# Altium schematic symbol library MicroFit 3.0 Connctors.SchLib: 1 symbol
Pins are listed as number, name and electrical type; pins without a type are passive.

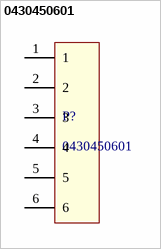
[diagram p0: symbol 0430450601]

## 0430450601
designator P?
2 ROW 6 PIN RA THT
footprint PCBComponent_1
pins: 1, 2, 3, 4, 5, 6